# Altium footprint library DIP_SWITCH_4_TYPE1.PcbLib: 1 footprints
Each footprint in its own frame and in the unit in brackets; x right, y up, seen from the top. Pads: shape width x height; smd on the part's side, far side on the other; paste and mask are expansions set on the pad; w line width, h text height; cw(c..) or ccw(c..) is an arc to the next point about the centre after c.
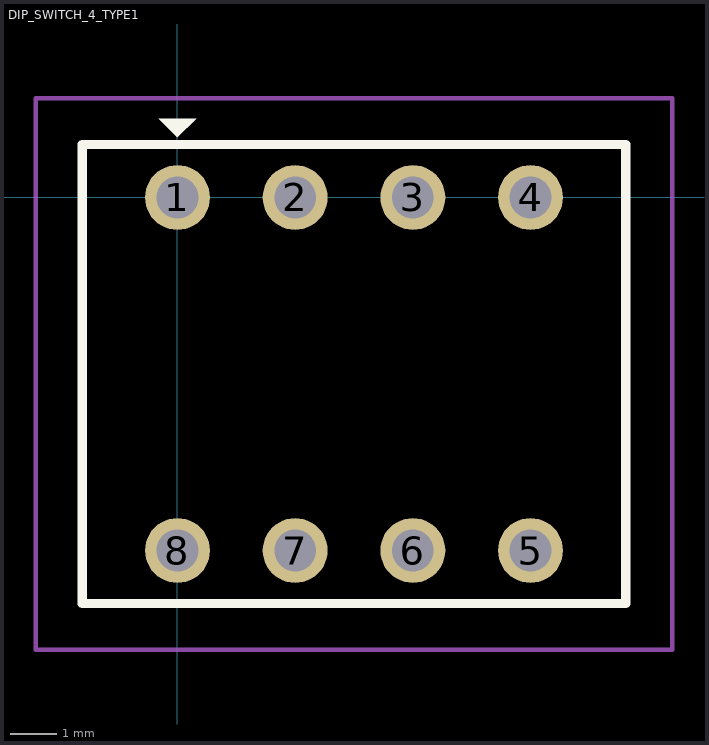
[diagram p0: the footprint, top view; thin cyan lines are the x and y axes]

## DIP_SWITCH_4_TYPE1 [mm]
pads (8):
  round 1.4 hole 0.9: 1(0,0) 2(2.54,0) 3(5.08,0) 4(7.62,0) 5(7.62,-7.62) 6(5.08,-7.62) 7(2.54,-7.62) 8(0,-7.62)
Top Overlay:
  region: -0.4,1.7 0.4,1.7 0,1.3
  lines w0.2: -2.057,-8.763 9.677,-8.763 9.677,1.143 -2.057,1.143 -2.057,-8.763
Top Courtyard:
  lines w0.1: -3.057,-9.763 -2.057,-9.763 10.677,-9.763 10.677,2.143 -3.057,2.143 -3.057,-9.763
3D body "a6e-4101.stp": height 6.2, standoff -3, extent -2.05,-8.76 9.67,1.14